# EAGLE library part 615032137821 (library EagleLibrary_Wuerth_Elektronik_eiCan_Communication_Connectors_v6_20150113)
WR-MJ Horizontal Shielded Ganged 4 Ports 8P8C Modular Jack Tab Down, 32 Pins=>Code : Con_I-O_MJ-H_Shielded_Down_615032137821 <http://katalog.we-online.de/media/images/eican/Con_I-O_MJ-H_Shielded_Down_615032137821_pf2.jpg> Details see: http://katalog.we-online.de/en/em/615_032_137_821 Created 2014-07-10, Karrer Zheng 2014 (C) Würth Elektronik
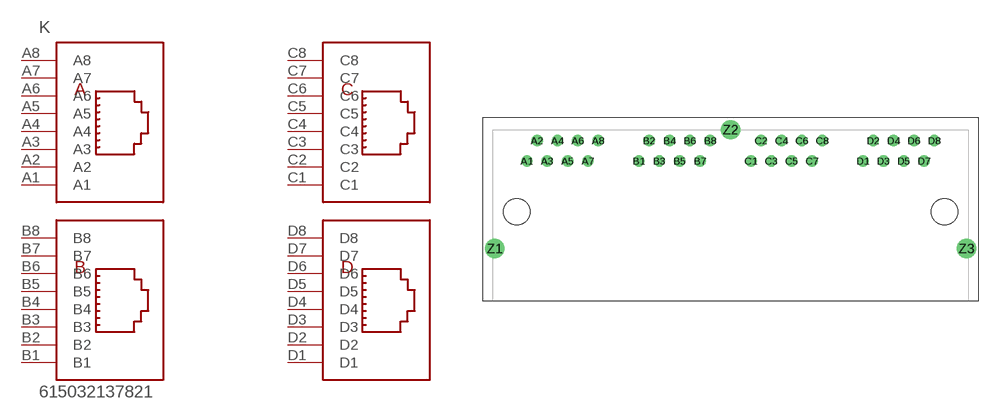
[diagram p131: symbol with the pads of 615032137821; footprint 615032137821]

Designator prefix K

## 615032137821  [615032137821]
A1  A1  pas
A2  A2  pas
A3  A3  pas
A4  A4  pas
A5  A5  pas
A6  A6  pas
A7  A7  pas
A8  A8  pas
B1  B1  pas
B2  B2  pas
B3  B3  pas
B4  B4  pas
B5  B5  pas
B6  B6  pas
B7  B7  pas
B8  B8  pas
C1  C1  pas
C2  C2  pas
C3  C3  pas
C4  C4  pas
C5  C5  pas
C6  C6  pas
C7  C7  pas
C8  C8  pas
D1  D1  pas
D2  D2  pas
D3  D3  pas
D4  D4  pas
D5  D5  pas
D6  D6  pas
D7  D7  pas
D8  D8  pas

## Footprint 615032137821 (pad centres in mm)
WR-MJ Horizontal Shielded Ganged 4 Ports 8P8C Modular Jack Tab Down, 32 Pins
drill 0.9: A1 -25.4,-1.27; A2 -24.13,1.27; A3 -22.86,-1.27; A4 -21.59,1.27; A5 -20.32,-1.27; A6 -19.05,1.27; A7 -17.78,-1.27; A8 -16.51,1.27; B1 -11.43,-1.27; B2 -10.16,1.27; B3 -8.89,-1.27; B4 -7.62,1.27; B5 -6.35,-1.27; B6 -5.08,1.27; B7 -3.81,-1.27; B8 -2.54,1.27; C1 2.54,-1.27; C2 3.81,1.27; C3 5.08,-1.27; C4 6.35,1.27; C5 7.62,-1.27; C6 8.89,1.27; C7 10.16,-1.27; C8 11.43,1.27; D1 16.51,-1.27; D2 17.78,1.27; D3 19.05,-1.27; D4 20.32,1.27; D5 21.59,-1.27; D6 22.86,1.27; D7 24.13,-1.27; D8 25.4,1.27
drill 1.6: Z1 -29.405,-12.19; Z2 0,2.62; Z3 29.405,-12.19
hole 3.25 at -26.67,-7.62
hole 3.25 at 26.67,-7.62